# Altium footprint library 15pin_1mm_FPC.PcbLib: 2 footprints
Each footprint in its own frame and in the unit in brackets; x right, y up, seen from the top. Pads: shape width x height; smd on the part's side, far side on the other; paste and mask are expansions set on the pad; w line width, h text height; cw(c..) or ccw(c..) is an arc to the next point about the centre after c.
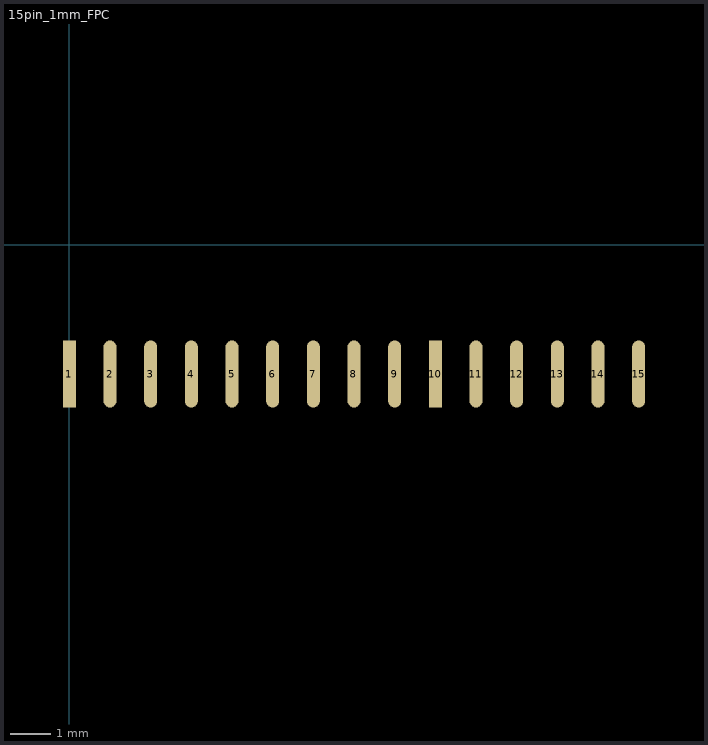
[diagram p0: the footprints below, top view; thin cyan lines are the x and y axes]

## 15pin_1mm_FPC [mm]
height 5.74
pads (15):
  rect 0.32x1.65 smd: 1(0,-3.175) 10(9,-3.175)
  oval 0.32x1.65 smd: 2(1,-3.175) 3(2,-3.175) 4(3,-3.175) 5(4,-3.175) 6(5,-3.175) 7(6,-3.175) 8(7,-3.175) 9(8,-3.175) 11(10,-3.175) 12(11,-3.175) 13(12,-3.175) 14(13,-3.175) 15(14,-3.175)

## PCBComponent_1 [mm]